# EAGLE library part B8B-XH-A_(LF)(SN) (library Project-H10)
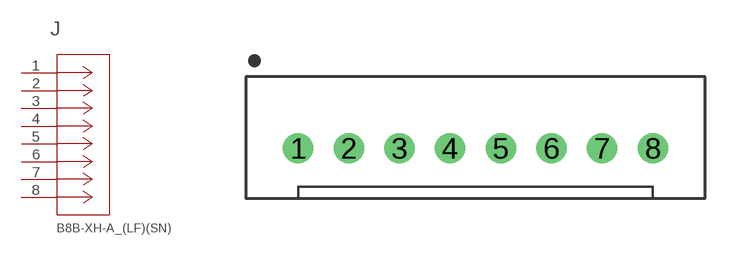
[diagram p2: symbol with the pads of CONN_B8B-XH-A_JST; footprint CONN_B8B-XH-A_JST]

Designator prefix J

## B8B-XH-A_(LF)(SN)CONN_B8B-XH-A_JST (COPYRIGHT: Copyright (C) 2023 Ultra Librarian. All rights reserved.; MANUFACTURER_PART_NUMBER: B8B-XH-A (LF)(SN); MFR_NAME: JST)  [CONN_B8B-XH-A_JST]
1  1  pas
2  2  pas
3  3  pas
4  4  pas
5  5  pas
6  6  pas
7  7  pas
8  8  pas

## Footprint CONN_B8B-XH-A_JST (pad centres in mm)
drill 0.991 pad 1.499: 1 0,0; 2 2.5,0; 3 5,0; 4 7.5,0; 5 10,0; 6 12.5,0; 7 15,0; 8 17.5,0